# Altium footprint library Common.PcbLib: 69 footprints (part 3 of 5)
Each footprint in its own frame and in the unit in brackets; x right, y up, seen from the top. Pads: shape width x height; smd on the part's side, far side on the other; paste and mask are expansions set on the pad; w line width, h text height; cw(c..) or ccw(c..) is an arc to the next point about the centre after c.
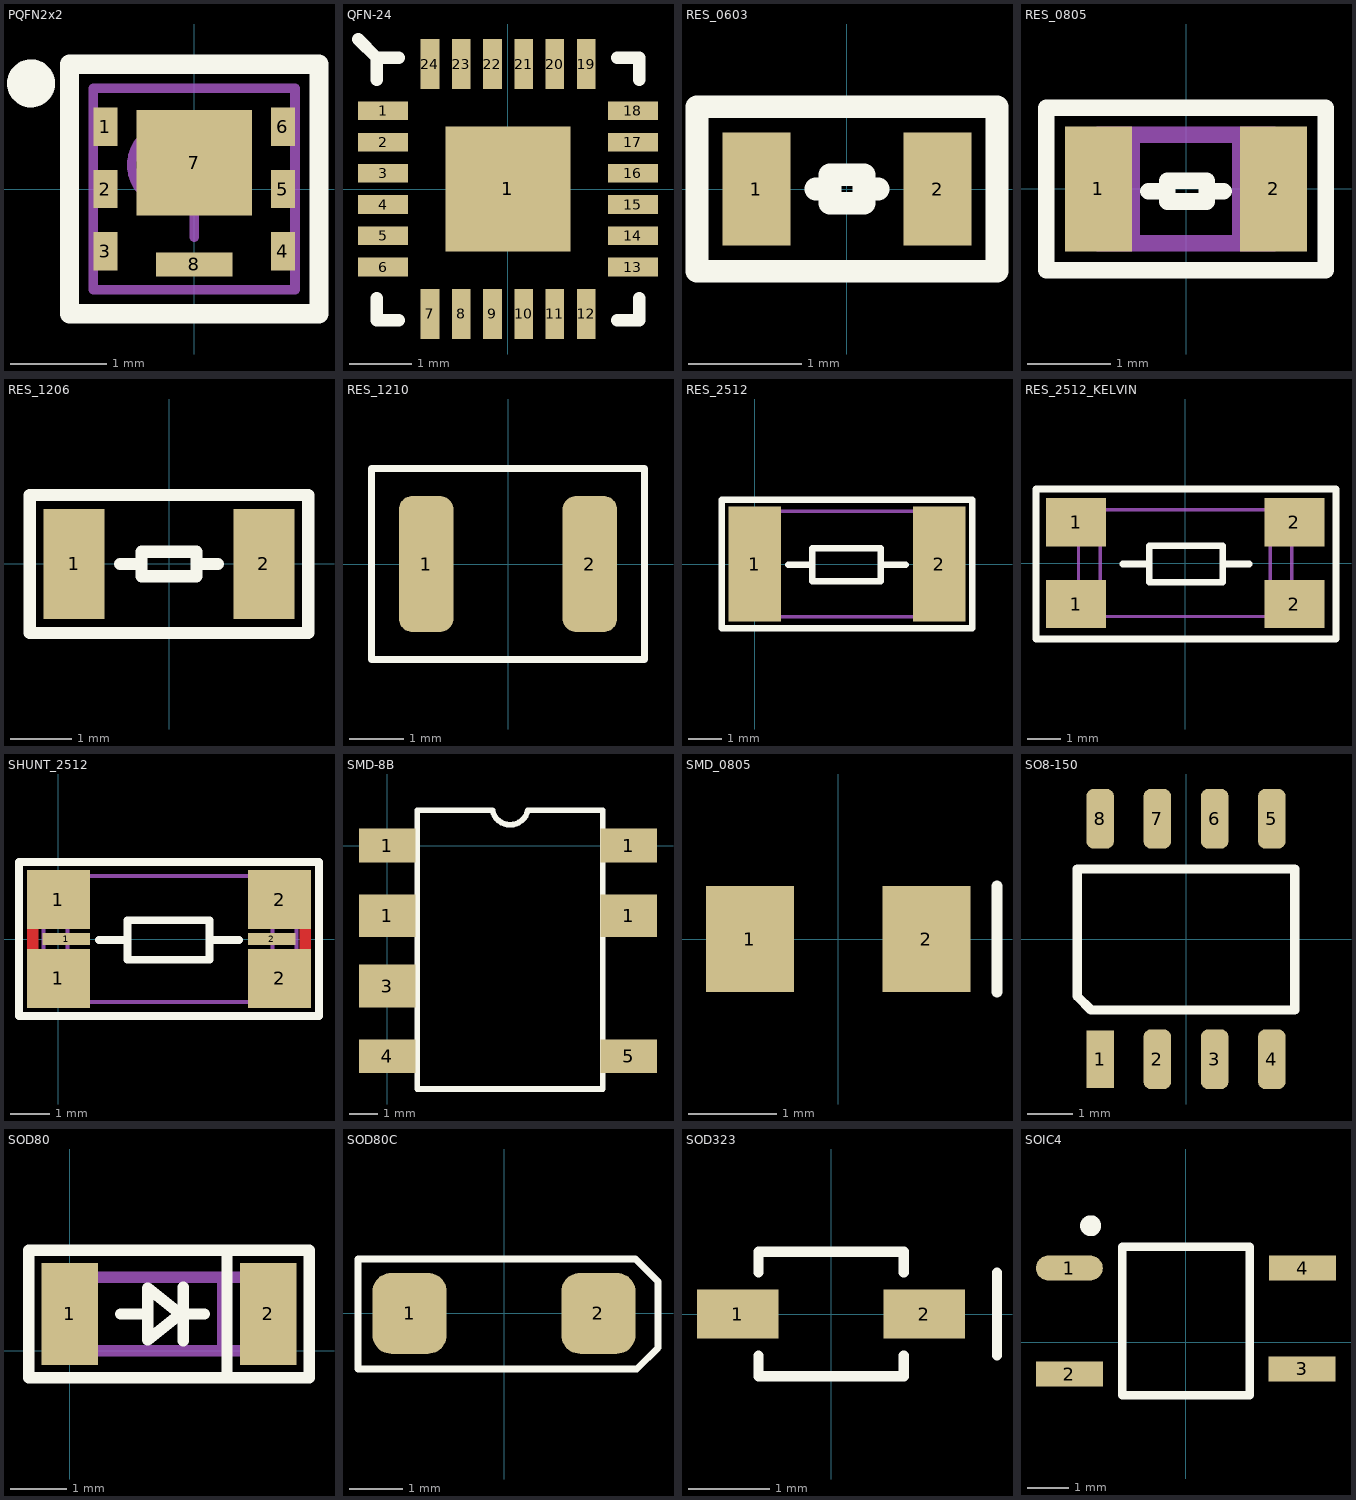
[diagram p2: the footprints below, top view; thin cyan lines are the x and y axes]

## PQFN2x2 [mm] "PQFN, 6-Leads, Body 2.00x2.00mm, Pitch 0.65mm, Thermal Pad 1.20x1.00mm, IPC Medium Density"
height 1
pads (8):
  rect 0.25x0.4 smd: 1(-0.925,0.65) 2(-0.925,0) 3(-0.925,-0.65) 4(0.925,-0.65) 5(0.925,0) 6(0.925,0.65)
  rect 1.2x1.1 smd: 7(0,0.275)
  rect 0.8x0.25 smd: 8(0,-0.785)
Top Overlay:
  circle w0.25: c-1.7,1.1 r0.125
  lines w0.2: -1.3,-1.3 1.3,-1.3 1.3,1.3 -1.3,1.3 -1.3,-1.3
Mechanical 13:
  circle w0.1: c-0.25,0.25 r0.4
  lines w0.1: -1.05,-1.05 -1.05,1.05 1.05,1.05 1.05,-1.05 -1.05,-1.05
Mechanical 15:
  lines w0.05: -1.3,-1.3 -1.3,1.3 1.3,1.3 1.3,-1.3 -1.3,-1.3
  lines w0.1: -0.5,0 0.5,0 ; 0,-0.5 0,0.5
3D body: height 1, standoff 0.05, extent -1.05,-1.05 1.05,1.05

## QFN-24 [mm]
height 0.8
pads (25):
  rect 0.8x0.3 smd: 1(-2,1.25) 2(-2,0.75) 3(-2,0.25) 4(-2,-0.25) 5(-2,-0.75) 6(-2,-1.25) 13(2,-1.25) 14(2,-0.75) 15(2,-0.25) 16(2,0.25) 17(2,0.75) 18(2,1.25)
  rect 2x2 smd: 1(0,0)
  rect 0.3x0.8 smd: 7(-1.25,-2) 8(-0.75,-2) 9(-0.25,-2) 10(0.25,-2) 11(0.75,-2) 12(1.25,-2) 19(1.25,2) 20(0.75,2) 21(0.25,2) 22(-0.25,2) 23(-0.75,2) 24(-1.25,2)
Top Overlay:
  lines w0.2: -2.4,2.4 -2.1,2.1 ; -2.1,-1.75 -2.1,-2.1 -1.75,-2.1 ; -2.1,1.75 -2.1,2.1 ; -1.75,2.1 -2.1,2.1 ; 1.75,-2.1 2.1,-2.1 2.1,-1.75 ; 1.75,2.1 2.1,2.1 2.1,1.75

## RES_0603 [mm] "SMD Resistor 0603"
height 0.5
pads (2):
  rect 0.6x1 smd: 1(-0.8,0) 2(0.8,0)
Top Overlay:
  lines w0.2: -0.275,0 -0.15,0 ; 0.15,0 0.275,0 ; -1.325,-0.725 -1.325,0.725 1.325,0.725 1.325,-0.725 -1.325,-0.725 ; -0.15,-0.125 -0.15,0.125 0.15,0.125 0.15,-0.125 -0.15,-0.125

## RES_0805 [mm] "SMD Resistor 0805"
height 0.5
pads (2):
  rect 0.8x1.5 smd: 1(-1.05,0) 2(1.05,0)
Top Overlay:
  lines w0.2: -0.45,-0.025 -0.3,-0.025 ; 0.325,-0.025 0.45,-0.025 ; -1.675,-0.975 -1.675,0.975 1.675,0.975 1.675,-0.975 -1.675,-0.975 ; -0.225,-0.15 -0.225,0.1 0.25,0.1 0.25,-0.15 -0.225,-0.15
Mechanical 1:
  lines w0.2: 0.65,-0.65 0.65,0.65 -0.65,0.65 -0.65,-0.65 -1.05,-0.65 ; -1.05,-0.65 -1.05,0.65 1.05,0.65 1.05,-0.65 -1.05,-0.65
3D body: height 0.5, standoff 0, extent 0.651,-0.649 1.049,0.649
3D body: height 0.5, standoff 0, extent -0.649,-0.649 0.649,0.649
3D body: height 0.5, standoff 0, extent -1.049,-0.649 -0.651,0.649

## RES_1206 [mm] "SMD Resistor 1206"
height 0.6
pads (2):
  rect 1x1.8 smd: 1(-1.55,0) 2(1.55,0)
Top Overlay:
  lines w0.2: -0.8,0 -0.55,0 ; 0.55,0 0.8,0 ; -2.275,-1.125 2.275,-1.125 2.275,1.125 -2.275,1.125 -2.275,-1.125 ; -0.45,-0.2 -0.45,0.2 0.45,0.2 0.45,-0.2 -0.45,-0.2

## RES_1210 [mm]
pads (2):
  rrect50% 1x2.5 smd: 1(-1.5,0) 2(1.5,0)
Top Overlay:
  lines w0.125: -2.5,-1.75 -2.5,1.75 2.5,1.75 2.5,-1.75 -2.5,-1.75
3D body: height 0.6, standoff 0, extent -1.6,-1.25 1.6,1.25

## RES_2512 [mm] "SMD Resistor 2512"
height 0.6
pads (2):
  rect 1.6x3.5 smd: 1(0,0) 2(5.6,0)
Top Overlay:
  lines w0.2: 1.025,-0.025 1.675,-0.025 ; 3.875,-0.025 4.575,-0.025 ; -1,-1.95 -1,1.95 6.6,1.95 6.6,-1.95 -1,-1.95 ; 1.75,-0.525 1.75,0.475 3.825,0.475 3.825,-0.525 1.75,-0.525
Mechanical 1:
  lines w0.1: 0.225,-1.6 0.225,1.6 ; 5.425,-1.6 5.425,1.6 ; -0.375,-1.6 6.025,-1.6 6.025,1.6 -0.375,1.6 -0.375,-1.6
3D body: height 0.6, standoff 0, extent 5.425,-1.599 6.024,1.599
3D body: height 0.6, standoff 0, extent 0.225,-1.599 5.424,1.599
3D body: height 0.6, standoff 0, extent -0.375,-1.599 0.224,1.599

## RES_2512_KELVIN [mm] "SMD Resistor 2512"
height 0.6
pads (4):
  rect 1.8x1.45 smd: 1(-3.275,-1.225) 1(-3.275,1.225) 2(3.275,-1.225) 2(3.275,1.225)
Top Overlay:
  lines w0.2: -1.875,-0.025 -1.075,-0.025 ; 1.125,-0.025 1.925,-0.025 ; -4.475,-2.275 4.525,-2.275 4.525,2.225 -4.475,2.225 -4.475,-2.275 ; -1.075,-0.575 1.125,-0.575 1.125,0.525 -1.075,0.525 -1.075,-0.575
Mechanical 1:
  lines w0.1: -2.55,-1.6 -2.55,1.6 ; 2.55,-1.6 2.55,1.6 ; -3.2,-1.6 -3.2,1.6 3.2,1.6 3.2,-1.6 -3.2,-1.6
3D body: height 0.6, standoff 0, extent -3.199,-1.599 -2.551,1.599
3D body: height 0.6, standoff 0, extent 2.551,-1.599 3.199,1.599
3D body: height 0.6, standoff 0, extent -2.549,-1.599 2.549,1.599

## SHUNT_2512 [mm] "SMD Shunt 2512"
height 0.6
pads (6):
  rect 1.6x1.5 smd: 1(0,-1) 1(0,1) 2(5.6,-1) 2(5.6,1)
  rect 1.2x0.3 smd: 1(0.2,0) 2(5.4,0)
Top Layer:
  lines w0.3: -0.65,-0.9 -0.65,1 ; 6.25,-0.95 6.25,0.95
Top Overlay:
  lines w0.2: 1.025,-0.025 1.675,-0.025 ; 3.875,-0.025 4.575,-0.025 ; -1,-1.95 -1,1.95 6.6,1.95 6.6,-1.95 -1,-1.95 ; 1.75,-0.525 1.75,0.475 3.825,0.475 3.825,-0.525 1.75,-0.525
Mechanical 1:
  lines w0.1: 0.225,-1.6 0.225,1.6 ; 5.425,-1.6 5.425,1.6 ; -0.375,-1.6 6.025,-1.6 6.025,1.6 -0.375,1.6 -0.375,-1.6
3D body: height 0.6, standoff 0, extent 5.425,-1.599 6.024,1.599
3D body: height 0.6, standoff 0, extent 0.225,-1.599 5.424,1.599
3D body: height 0.6, standoff 0, extent -0.375,-1.599 0.224,1.599

## SMD-8B [mm]
height 4
pads (7):
  rect 2x1.524 smd: 1(0,-2.5) 1(8.6,-2.5) 3(0,-5)
  rect 2x1.2 smd: 1(0,0) 1(8.6,0) 4(0,-7.5) 5(8.6,-7.5)
Top Overlay:
  lines w0.2: 1.075,-8.665 7.675,-8.665 7.675,1.165 7.675,1.25 5,1.25 cw(c4.375,1.375) 3.75,1.25 1.075,1.25 1.075,1.165 1.075,-8.665

## SMD_0805 [mm]
pads (2):
  rect 1x1.2 smd: 1(-1,0) 2(1,0)
Top Overlay:
  lines w0.127: 1.8,-0.6 1.8,0.6
3D body: height 1.1, standoff 0, extent -1.01,-0.625 1.01,0.625

## SO8-150 [mil]
pads (8):
  rect 24x50 smd mask+4: 1(-75,-105)
  rrect50% 24x52 smd mask+4: 2(-25,-105) 3(25,-105) 4(75,-105) 5(75,105) 6(25,105) 7(-25,105) 8(-75,105)
Top Overlay:
  lines w8: -95.01,-49.99 -82.99,-62.01 95,-62.01 95,61.02 -95.01,61.02 -95.01,-49.99
3D body: height 67, standoff 0, extent -95.01,-122.01 94.99,121.99

## SOD80 [mm] "SOD80 package"
height 2
pads (2):
  rect 1x1.8 smd: 1(0,0.65) 2(3.5,0.65)
Top Overlay:
  lines w0.2: 0.9,0.65 1.3,0.65 ; 2,0.175 2,1.125 ; 2.375,0.65 1.95,0.65 ; 2.775,-0.475 2.775,1.775 2.8,1.775 ; 1.95,0.65 1.375,1.11 1.375,0.19 1.95,0.65 ; -0.725,-0.475 -0.725,1.775 4.225,1.775 4.225,-0.475 -0.725,-0.475
Mechanical 1:
  lines w0.2: 0.35,0 0.35,1.3 ; 2.7,0 2.7,1.3 ; 3.15,0 3.15,1.3 ; 0,0 0,1.3 3.5,1.3 3.5,0 0,0
3D body: height 1.3, standoff 0, extent 3.151,0.001 3.499,1.299
3D body: height 1.3, standoff 0, extent 2.701,0.001 3.149,1.299
3D body: height 1.3, standoff 0, extent 0.351,0.001 2.699,1.299
3D body: height 1.3, standoff 0, extent 0.001,0.001 0.349,1.299

## SOD80C [mil]
pads (2):
  rrect50% 55x60 smd: 1(-70,0) 2(70,0)
Top Overlay:
  lines w5: -108.27,-41.34 -108.27,40.35 97.44,40.35 114.17,23.62 114.17,-25.59 98.43,-41.34 -108.27,-41.34
3D body: height 55.12, standoff 0, extent -68.9,-28 68.9,27.12

## SOD323 [mm]
pads (2):
  rect 1x0.6 smd: 1(-1.143,0) 2(1.143,0)
Top Overlay:
  lines w0.127: -0.889,-0.508 -0.889,-0.762 0.889,-0.762 0.889,-0.508 ; -0.889,0.508 -0.889,0.762 0.889,0.762 0.889,0.508 ; 2.032,-0.508 2.032,0.508

## SOIC4 [mm]
height 1.75
pads (4):
  oval 1.6x0.6 smd: 1(-2.794,1.778)
  rect 1.6x0.6 smd: 2(-2.794,-0.762) 3(2.781,-0.635) 4(2.794,1.778)
Top Overlay:
  circle w0.25: c-2.286,2.794 r0.125
  lines w0.2: -1.524,-1.27 1.524,-1.27 1.524,2.286 -1.524,2.286 -1.524,-1.27